# Altium schematic symbol library D_Zener_SOT23.Schlib: 1 symbol
Pins are listed as number, name and electrical type; pins without a type are passive.

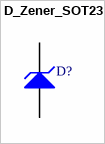
[diagram p0: symbol D_Zener_SOT23]

## D_Zener_SOT23
designator D?
Diode, Zener
simulation model ZENER (Diode)
signal-integrity model D Zener
pins: 1 A, 3 K